# EAGLE library part ADV7183B (library ADV7183B)
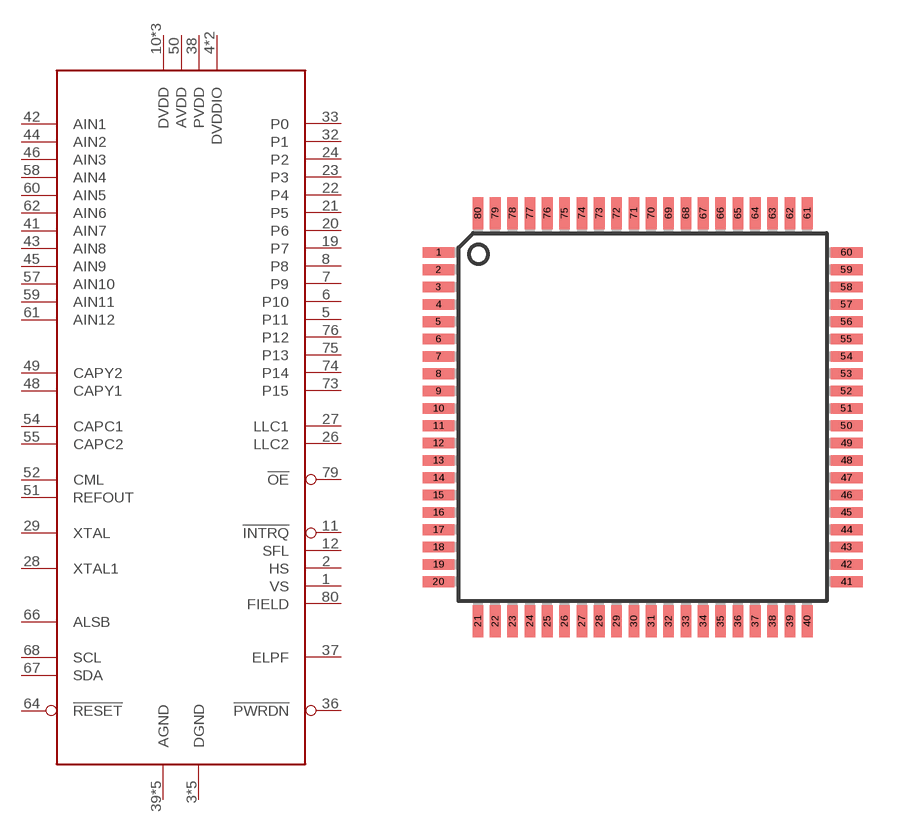
[diagram p0: symbol with the pads of LQFP-80; footprint LQFP-80]

Designator prefix -

## ADV7183B  [LQFP-80]
1  VS
2  HS
3  DGND  pwr
4  DVDDIO  pwr
5  P11  out
6  P10  out
7  P9  out
8  P8  out
9  DGND  pwr
10  DVDD  pwr
11  !INTRQ  in
12  SFL
14  DGND  pwr
15  DVDDIO  pwr
19  P7  out
20  P6  out
21  P5  out
22  P4  out
23  P3  out
24  P2  out
26  LLC2  out
27  LLC1  out
28  XTAL1  out
29  XTAL  in
30  DVDD  pwr
31  DGND  pwr
32  P1  out
33  P0  out
36  !PWRDN  in
37  ELPF
38  PVDD  pwr
39  AGND  pwr
40  AGND  pwr
41  AIN7  in
42  AIN1  in
43  AIN8  in
44  AIN2  in
45  AIN9  in
46  AIN3  in
47  AGND  pwr
48  CAPY1
49  CAPY2
50  AVDD  pwr
51  REFOUT
52  CML
53  AGND  pwr
54  CAPC1
55  CAPC2
56  AGND  pwr
57  AIN10  in
58  AIN4  in
59  AIN11  in
60  AIN5  in
61  AIN12  in
62  AIN6  in
64  !RESET
66  ALSB
67  SDA
68  SCL
71  DGND  pwr
72  DVDD  pwr
73  P15  out
74  P14  out
75  P13  out
76  P12  out
79  !OE  in
80  FIELD

## Footprint LQFP-80 (pad centres in mm)
Low Quad Flat Pack
smd 1.2 x 0.4: 1 -7.65,4.905; 2 -7.65,4.255; 3 -7.65,3.605; 4 -7.65,2.955; 5 -7.65,2.305; 6 -7.65,1.655; 7 -7.65,1.005; 8 -7.65,0.355; 9 -7.65,-0.295; 10 -7.65,-0.945; 11 -7.65,-1.595; 12 -7.65,-2.245; 13 -7.65,-2.895; 14 -7.65,-3.545; 15 -7.65,-4.195; 16 -7.65,-4.845; 17 -7.65,-5.495; 18 -7.65,-6.145; 19 -7.65,-6.795; 20 -7.65,-7.445; 41 7.65,-7.445; 42 7.65,-6.795; 43 7.65,-6.145; 44 7.65,-5.495; 45 7.65,-4.845; 46 7.65,-4.195; 47 7.65,-3.545; 48 7.65,-2.895; 49 7.65,-2.245; 50 7.65,-1.595; 51 7.65,-0.945; 52 7.65,-0.295; 53 7.65,0.355; 54 7.65,1.005; 55 7.65,1.655; 56 7.65,2.305; 57 7.65,2.955; 58 7.65,3.605; 59 7.65,4.255; 60 7.65,4.905
smd 0.4 x 1.2: 21 -6.175,-8.92; 22 -5.525,-8.92; 23 -4.875,-8.92; 24 -4.225,-8.92; 25 -3.575,-8.92; 26 -2.925,-8.92; 27 -2.275,-8.92; 28 -1.625,-8.92; 29 -0.975,-8.92; 30 -0.325,-8.92; 31 0.325,-8.92; 32 0.975,-8.92; 33 1.625,-8.92; 34 2.275,-8.92; 35 2.925,-8.92; 36 3.575,-8.92; 37 4.225,-8.92; 38 4.875,-8.92; 39 5.525,-8.92; 40 6.175,-8.92; 61 6.175,6.38; 62 5.525,6.38; 63 4.875,6.38; 64 4.225,6.38; 65 3.575,6.38; 66 2.925,6.38; 67 2.275,6.38; 68 1.625,6.38; 69 0.975,6.38; 70 0.325,6.38; 71 -0.325,6.38; 72 -0.975,6.38; 73 -1.625,6.38; 74 -2.275,6.38; 75 -2.925,6.38; 76 -3.575,6.38; 77 -4.225,6.38; 78 -4.875,6.38; 79 -5.525,6.38; 80 -6.175,6.38